# Altium integrated library 3587-10TR.IntLib: 1 symbol
Pins are listed as number, name and electrical type; pins without a type are passive.

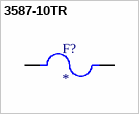
[diagram p0: symbol 3587-10TR]

## 3587-10TR
designator F?
MP: 3587-10TR; Price: None; Value: *; Availability: Unavailable; Package: None
footprint FUSE_3587-10TR
pins: 1_1 1, 1_2 1, 2_1 2, 2_2 2